# EAGLE library part JOYSTICK (library dp_devices)
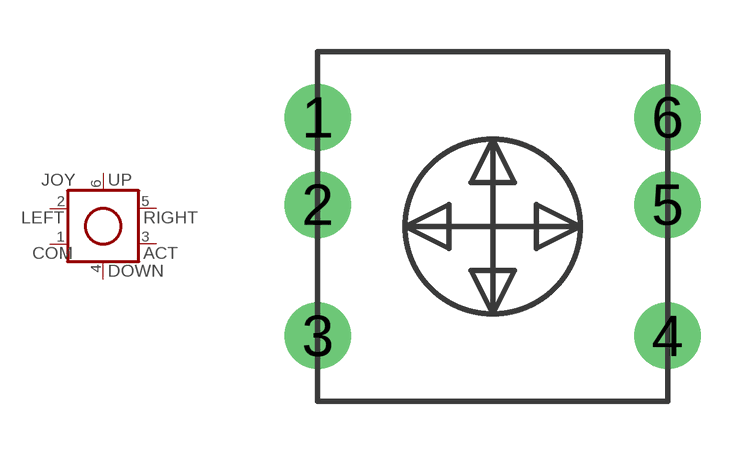
[diagram p85: symbol with the pads of JOYSTICK; footprint JOYSTICK]

Designator prefix JOY

## JOYSTICK  [JOYSTICK]
1  COM
2  LEFT
3  ACT
4  DOWN
5  RIGHT
6  UP

## Footprint JOYSTICK (pad centres in mm)
drill 1 pad 1.93: 1 -5.08,3.175; 3 -5.08,-3.175; 4 5.08,-3.175; 6 5.08,3.175
drill 0.8 pad 1.93: 2 -5.08,0.635; 5 5.08,0.635